# EAGLE library part LCD (library LCD)
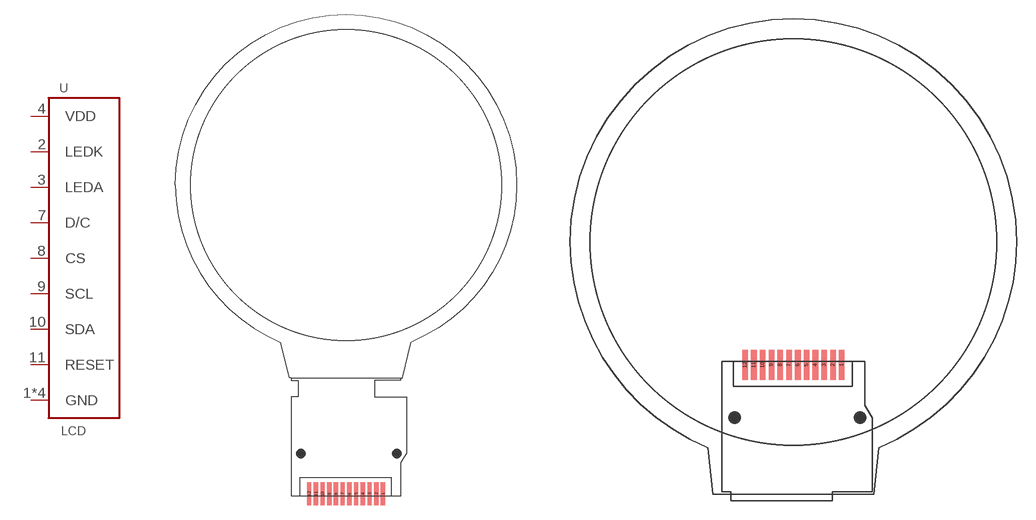
[diagram p0: symbol with the pads of FR-128HR01A; footprints FR-128HR01A, FR-128HR01A_FOLD]

Designator prefix U

## LCD  [FR-128HR01A]
1  GND
2  LEDK
3  LEDA
4  VDD
5  GND
6  GND
7  D/C
8  CS
9  SCL
10  SDA
11  RESET
12  GND

## LCDFOLD  [FR-128HR01A_FOLD]
Pads as for FR-128HR01A

## Footprint FR-128HR01A (pad centres in mm)
smd 0.45 x 2.4: 1 3.85,-32.2; 2 3.15,-32.2; 3 2.45,-32.2; 4 1.75,-32.2; 5 1.05,-32.2; 6 0.35,-32.2; 7 -0.35,-32.2; 8 -1.05,-32.2; 9 -1.75,-32.2; 10 -2.45,-32.2; 11 -3.15,-32.2; 12 -3.85,-32.2

## Footprint FR-128HR01A_FOLD (pad centres in mm)
smd 0.45 x 2.4: 1 3.85,-9.8; 2 3.15,-9.8; 3 2.45,-9.8; 4 1.75,-9.8; 5 1.05,-9.8; 6 0.35,-9.8; 7 -0.35,-9.8; 8 -1.05,-9.8; 9 -1.75,-9.8; 10 -2.45,-9.8; 11 -3.15,-9.8; 12 -3.85,-9.8